# EAGLE library part MCP4726* (library bschulz)
MCP4726x - 8/10/12 Bit Digital to Analog Converter Characteristics: VCC: 2.7~5.5V IQ: 210μA (On), 60nA (Shutdown) Operating Temperature: -40°C to 125°C Number of Outputs: 1 Settling Time: 6μs Number of Bits: 8 (MCP4706), 10 (MCP4716), 12 (MCP4726) Digikey: MCP4726A0T-E/CHCT-ND (MCP4726, A0) <https://www.digikey.com/product-detail/en/microchip-technology/MCP4726A0T-E-CH/MCP4726A0T-E-CHCT-ND/2713266> MCP4726A1T-E/CHCT-ND (MCP4726, A1) <https://www.digikey.com/product-detail/en/microchip-technology/MCP4726A1T-E-CH/MCP4726A1T-E-CHCT-ND/5148848> MCP4726A2T-E/CHCT-ND (MCP4726, A2) <https://www.digikey.com/product-detail/en/microchip-technology/MCP4726A2T-E-CH/MCP4726A2T-E-CHCT-ND/8638162> MCP4726A3T-E/CHCT-ND (MCP4726, A3) <https://www.digikey.com/product-detail/en/microchip-technology/MCP4726A3T-E-CH/MCP4726A3T-E-CHCT-ND/7065582>
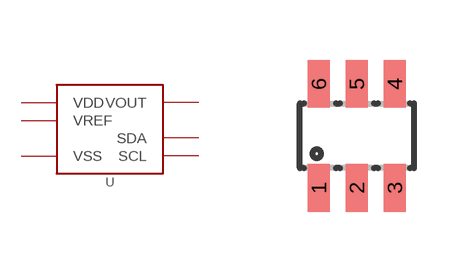
[diagram p75: symbol with the pads of SOT23-6L; footprint SOT23-6L]

Designator prefix U

## MCP4726SOT-23 (DISP: MCP4726; MF: Microchip), MCP4726A0SOT-23 (DIGIKEY: MCP4726A0T-E/CHCT-ND; DISP: MCP4726A0; MF: Microchip; MPN: MCP4726A0T-E/CH), MCP4726A1SOT-23 (DIGIKEY: MCP4726A1T-E/CHCT-ND; DISP: MCP4726A1; MF: Microchip; MPN: MCP4726A1T-E/CH), MCP4726A2SOT-23 (DIGIKEY: MCP4726A2T-E/CHCT-ND; DISP: MCP4726A2; MF: Microchip; MPN: MCP4726A2T-E/CH), MCP4726A3SOT-23 (DIGIKEY: MCP4726A3T-E/CHCT-ND; DISP: MCP4726A3; MF: Microchip; MPN: MCP4726A3T-E/CH)  [SOT23-6L]
1  VOUT  out
2  VSS  pwr
3  VDD  pwr
4  SDA
5  SCL
6  VREF  pwr

## Footprint SOT23-6L (pad centres in mm)
Small Outline Transistor
smd 0.55 x 1.2: 1 -0.95,-1.3; 2 0,-1.3; 3 0.95,-1.3; 4 0.95,1.3; 5 0,1.3; 6 -0.95,1.3